# Altium footprint library CKN4044-ND.PcbLib: 1 footprints
Each footprint in its own frame and in the unit in brackets; x right, y up, seen from the top. Pads: shape width x height; smd on the part's side, far side on the other; paste and mask are expansions set on the pad; w line width, h text height; cw(c..) or ccw(c..) is an arc to the next point about the centre after c.
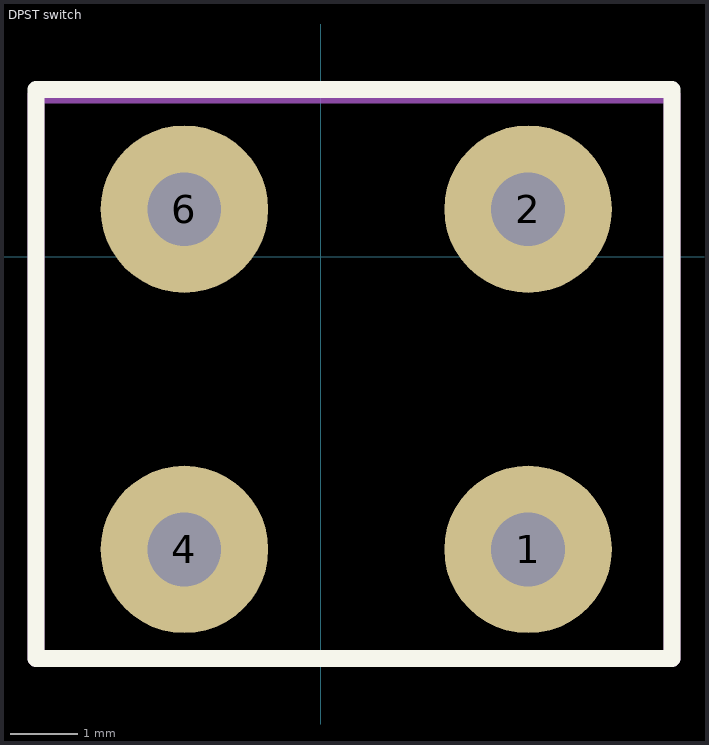
[diagram p0: the footprint, top view; thin cyan lines are the x and y axes]

## DPST switch [mm] "CKN4044-ND switch"
height 19
pads (4):
  round 2.5 hole 1.1: 1(3.099,-4.369) 2(3.099,0.711) 4(-2.032,-4.369) 6(-2.032,0.711)
Top Overlay:
  lines w0.254: -4.25,-6 5.25,-6 5.25,2.5 -4.25,2.5 -4.25,-6
Mechanical 15:
  lines w0.254: -4.25,-6 5.25,-6 5.25,2.413 -4.25,2.413 -4.25,-6
3D body "EP21SD1CBE.stp": height 19.96, standoff -2.19, extent -4.072,-5.814 5.072,2.314